# EAGLE library part G05R (library EW_Resistors)
SIL RESISTOR
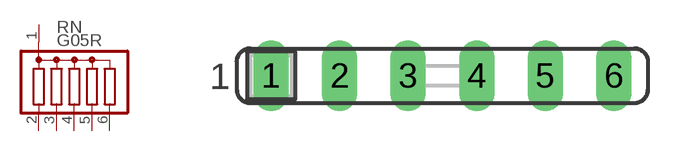
[diagram p16: symbol with the pads of SIL6; footprint SIL6]

Designator prefix RN

## G05R (OC_FARNELL: unknown; OC_NEWARK: unknown)  [SIL6]
1  1  pas
2  2  pas
3  3  pas
4  4  pas
5  5  pas
6  6  pas

## Footprint SIL6 (pad centres in mm)
Single In Line
drill 0.813 long: 1 -6.35,0; 2 -3.81,0; 3 -1.27,0; 4 1.27,0; 5 3.81,0; 6 6.35,0